# EAGLE library part Y14 (library mita-akiba)
Compact Relay 80 yens@Akizuki
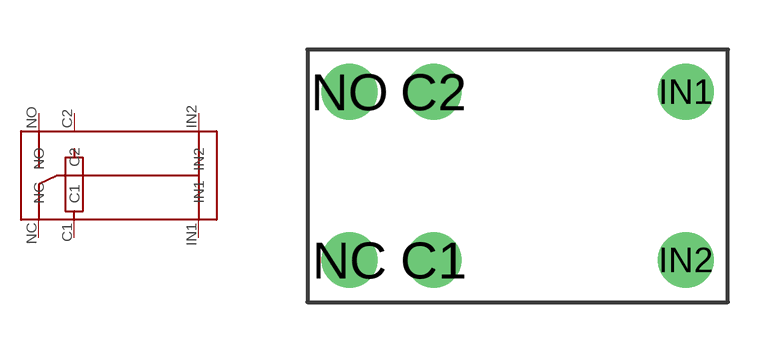
[diagram p65: symbol with the pads of Y14; footprint Y14]

Designator prefix -

## Y14  [Y14]
C1  C1
C2  C2
IN1  IN1
IN2  IN2
NC  NC
NO  NO

## Footprint Y14 (pad centres in mm)
drill 0.8 pad 1.676: C1 2.54,0; C2 2.54,5.08; IN1 10.16,5.08; IN2 10.16,0; NC 0,0; NO 0,5.08